# Altium footprint library Display_7Segment.PcbLib: 53 footprints (part 4 of 4)
Each footprint in its own frame and in the unit in brackets; x right, y up, seen from the top. Pads: shape width x height; smd on the part's side, far side on the other; paste and mask are expansions set on the pad; w line width, h text height; cw(c..) or ccw(c..) is an arc to the next point about the centre after c.
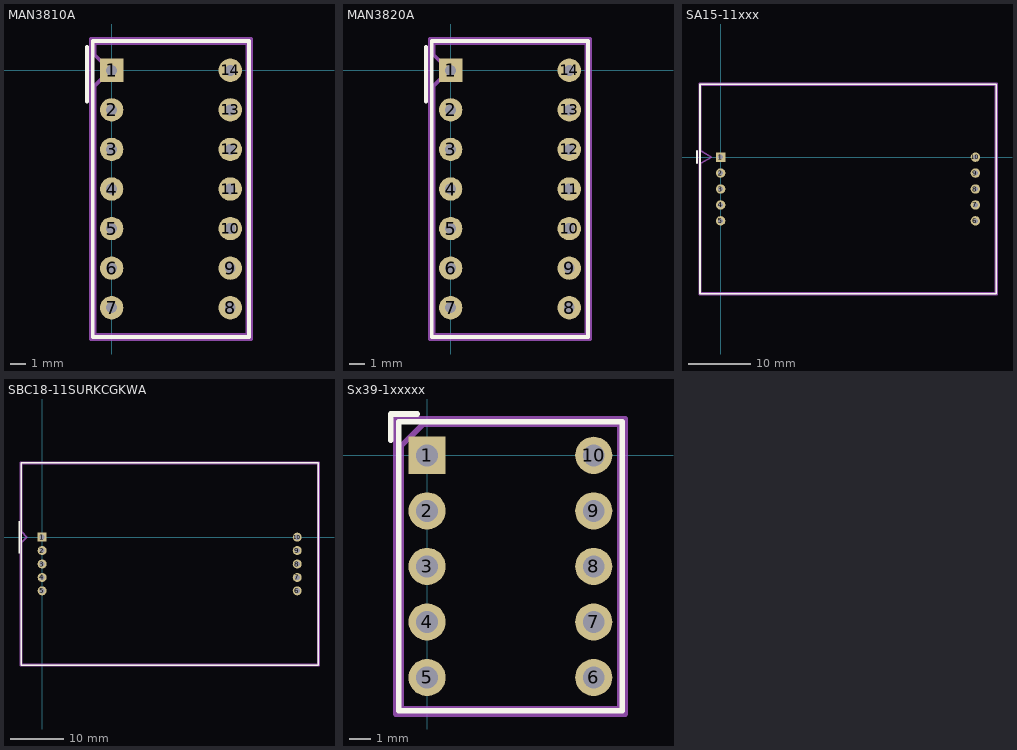
[diagram p3: the footprints below, top view; thin cyan lines are the x and y axes]

## MAN3810A [mm]
pads (14):
  rect 1.5x1.5 hole 0.7: 1(0,0)
  round 1.5 hole 0.7: 2(0,-2.54) 3(0,-5.08) 4(0,-7.62) 5(0,-10.16) 6(0,-12.7) 7(0,-15.24) 8(7.62,-15.24) 9(7.62,-12.7) 10(7.62,-10.16) 11(7.62,-7.62) 12(7.62,-5.08) 13(7.62,-2.54) 14(7.62,0)
F.SilkS:
  lines w0.254: -1.59,-2 -1.59,1.5 ; -1.21,-17.115 8.83,-17.115 8.83,1.875 -1.21,1.875 -1.21,-17.115
Top Assembly:
  lines w0.254: -1.09,-16.995 8.71,-16.995 8.71,1.755 -1.09,1.755 -1.09,1 -0.09,0 -1.09,-1 -1.09,-16.995
  text "'.Designator'" at -0.247,-8.64 h1
Top Courtyard:
  lines w0.254: -1.34,-17.25 8.96,-17.25 8.96,2.01 -1.34,2.01 -1.34,-17.25
Top Designator:
  text ".Designator" at -3.933,-8.128 h1.52

## MAN3820A [mm]
pads (14):
  rect 1.5x1.5 hole 0.7: 1(0,0)
  round 1.5 hole 0.7: 2(0,-2.54) 3(0,-5.08) 4(0,-7.62) 5(0,-10.16) 6(0,-12.7) 7(0,-15.24) 8(7.62,-15.24) 9(7.62,-12.7) 10(7.62,-10.16) 11(7.62,-7.62) 12(7.62,-5.08) 13(7.62,-2.54) 14(7.62,0)
F.SilkS:
  lines w0.254: -1.59,-2 -1.59,1.5 ; -1.21,-17.115 8.83,-17.115 8.83,1.875 -1.21,1.875 -1.21,-17.115
Top Assembly:
  lines w0.254: -1.09,-16.995 8.71,-16.995 8.71,1.755 -1.09,1.755 -1.09,1 -0.09,0 -1.09,-1 -1.09,-16.995
  text "'.Designator'" at -0.247,-8.64 h1
Top Courtyard:
  lines w0.254: -1.34,-17.25 8.96,-17.25 8.96,2.01 -1.34,2.01 -1.34,-17.25
Top Designator:
  text ".Designator" at -3.933,-8.128 h1.52

## SA15-11xxx [mm]
pads (10):
  rect 1.5x1.5 hole 0.8: 1(0,0)
  round 1.5 hole 0.8: 2(0,-2.54) 3(0,-5.08) 4(0,-7.62) 5(0,-10.16) 6(40.62,-10.16) 7(40.62,-7.62) 8(40.62,-5.08) 9(40.62,-2.54) 10(40.62,0)
F.SilkS:
  lines w0.254: -3.78,-1 -3.78,1 ; -3.3,-21.775 43.94,-21.775 43.94,11.615 -3.3,11.615 -3.3,-21.775
Top Assembly:
  lines w0.254: -3.18,-21.655 43.82,-21.655 43.82,11.495 -3.18,11.495 -3.18,1 -1.48,0 -3.18,-1 -3.18,-21.655
  text "'.Designator'" at 22.41,-9.247 h1
Top Courtyard:
  lines w0.254: -3.43,-21.91 44.07,-21.91 44.07,11.75 -3.43,11.75 -3.43,-21.91
Top Designator:
  text ".Designator" at 12.527,-5.588 h1.52

## SBC18-11SURKCGKWA [mm]
pads (10):
  rect 1.7x1.7 hole 1: 1(0,0)
  round 1.7 hole 1: 2(0,-2.54) 3(0,-5.08) 4(0,-7.62) 5(0,-10.16) 6(48.26,-10.16) 7(48.26,-7.62) 8(48.26,-5.08) 9(48.26,-2.54) 10(48.26,0)
F.SilkS:
  lines w0.254: -4.37,-3 -4.37,3 ; -3.99,-24.2 52.25,-24.2 52.25,14.04 -3.99,14.04 -3.99,-24.2
Top Assembly:
  lines w0.254: -3.87,-24.08 52.13,-24.08 52.13,13.92 -3.87,13.92 -3.87,1 -2.87,0 -3.87,-1 -3.87,-24.08
  text "'.Designator'" at 20.403,-6.14 h1
Top Courtyard:
  lines w0.254: -4.12,-24.33 52.38,-24.33 52.38,14.17 -4.12,14.17 -4.12,-24.33
Top Designator:
  text ".Designator" at 16.387,-5.588 h1.52

## Sx39-1xxxxx [mm]
pads (10):
  rect 1.7x1.7 hole 1: 1(0,0)
  round 1.7 hole 1: 2(0,-2.54) 3(0,-5.08) 4(0,-7.62) 5(0,-10.16) 6(7.62,-10.16) 7(7.62,-7.62) 8(7.62,-5.08) 9(7.62,-2.54) 10(7.62,0)
F.SilkS:
  lines w0.254: -1.66,0.69 -1.66,1.89 -0.46,1.89 ; -1.3,-11.69 8.92,-11.69 8.92,1.53 -1.3,1.53 -1.3,-11.69
Top Assembly:
  lines w0.254: -1.19,-11.58 8.81,-11.58 8.81,1.42 -0.19,1.42 -1.19,0.42 -1.19,-11.58
  text "'.Designator'" at -0.237,-5.92 h1
Top Courtyard:
  lines w0.254: -1.44,-11.83 9.06,-11.83 9.06,1.67 -1.44,1.67 -1.44,-11.83
Top Designator:
  text ".Designator" at -3.918,-5.478 h1.52